# EAGLE library part YC164 (library yc164)
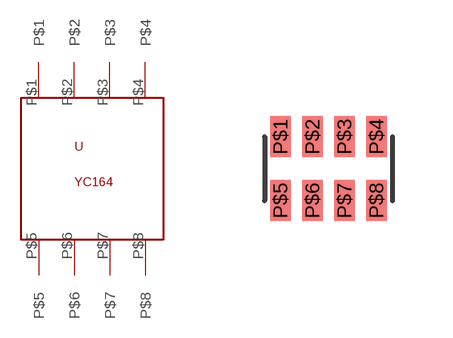
[diagram p0: symbol with the pads of YC164; footprint YC164]

Designator prefix -

## YC164  [YC164]
P$1  P$1
P$2  P$2
P$3  P$3
P$4  P$4
P$5  P$5
P$6  P$6
P$7  P$7
P$8  P$8

## Footprint YC164 (pad centres in mm)
smd 0.508 x 1.016: P$1 -1.2,0.8; P$2 -0.4,0.8; P$3 0.4,0.8; P$4 1.2,0.8; P$5 -1.2,-0.8; P$6 -0.4,-0.8; P$7 0.4,-0.8; P$8 1.2,-0.8